# Altium integrated library Analog Devices RF IF Direct Digital Synthesis.IntLib: 76 symbols (part 3 of 9)
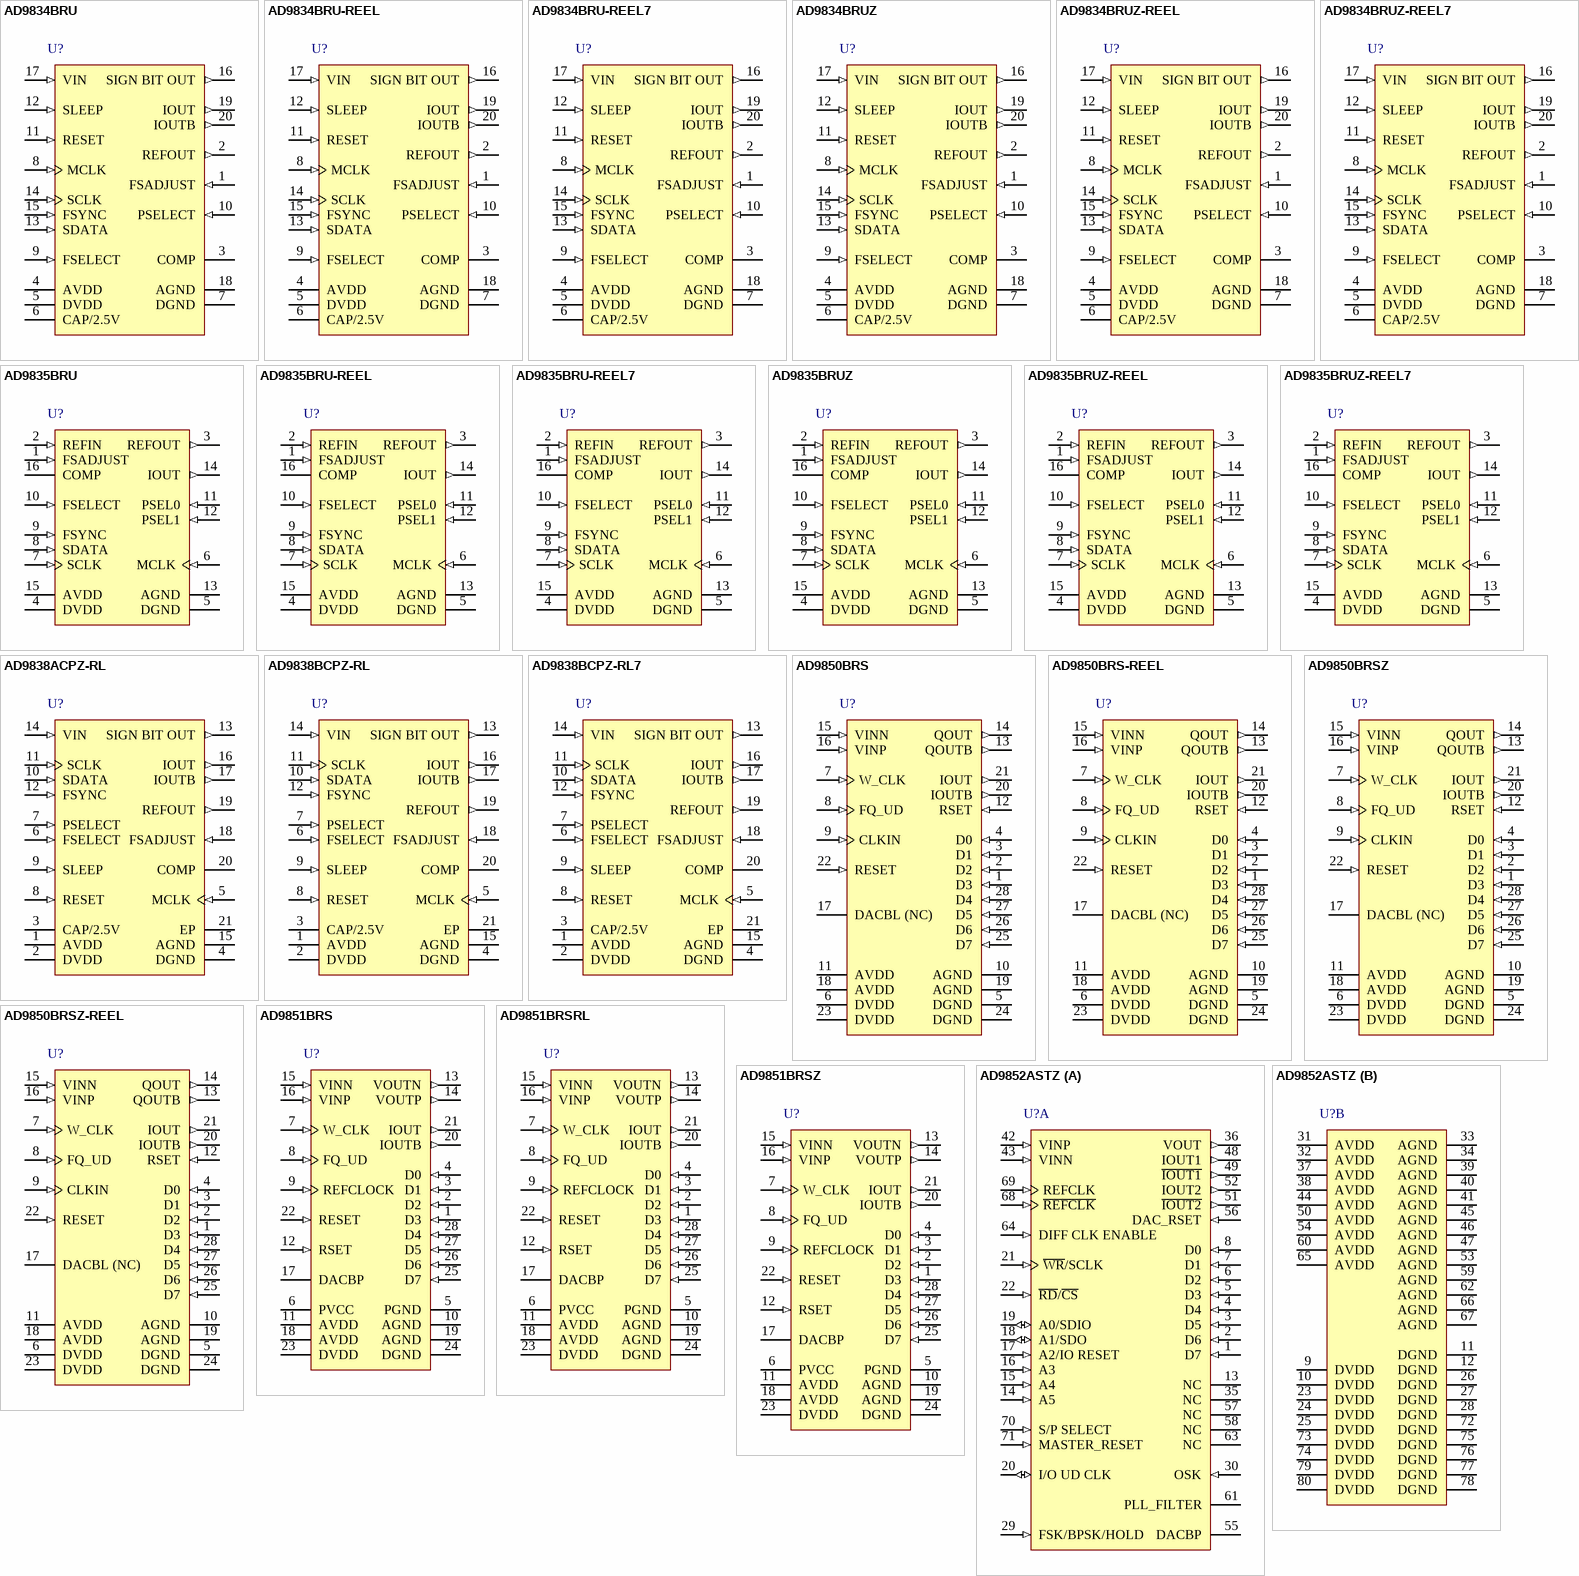
[diagram p7: symbols AD9834BRU to AD9852ASTZ]

## AD9834BRUZ-REEL
designator U?
20 mW Power, 2.3 V to 5.5 V, 75 MHz Complete DDS, 10-Bit, Serial, RU-20, 2500 Reel, Pb-Free; Master fclk: 75MHz; Resolution (Bits): 10bit; Tuning Word Width (bits): 28bit; REFCLK Multiplier: No; Compliance Range (V): 800mV; FS Iout (mA nom): 3mA; I Supply total (max): 8.7mA; DatasheetVersion: Rev. C; PackageVersion: 2000; PackageReference: RU-20; PackageDescription: 20-Lead Thin Shrink Small Outline Package [TSSOP]; I/O Interface: Serial; Code_JEDEC: MO-153AC; ComponentLink1Description: Manufacturer URL; ComponentLink1URL: www.analog.com; ComponentLink2Description: Datasheet; ComponentLink2URL: http://www.analog.com/static/imported-files/data_sheets/AD9834.pdf; ComponentLink3Description: Package Specification; ComponentLink3URL: http://www.analog.com/static/imported-files/packages/364515793657813558433715854054607941441RU20.pdf
footprint ADI-RU-20_N (TSOP, 20-Leads, Body 6.5x4.4mm, Pitch 0.65mm, IPC Medium Density)
footprint ADI-RU-20_L (TSOP, 20-Leads, Body 6.5x4.4mm, Pitch 0.65mm, IPC High Density)
footprint ADI-RU-20_M (TSOP, 20-Leads, Body 6.5x4.4mm, Pitch 0.65mm, IPC Low Density)
pins: 1 FSADJUST (in) "Full-Scale Adjust Control. A resistor (RSET) is connected between this pin and AGND. This determines the magnitude of the full-scale DAC current. [see datasheet]", 2 REFOUT (out) "Voltage Reference Output. The AD9834 has an internal 1.20 V reference that is made available at this pin.", 3 COMP "DAC Bias Pin. This pin is used for decoupling the DAC bias voltage.", 4 AVDD (power) "Positive Power Supply for the Analog Section. AVDD can have a value from 2.3 V to 5.5 V. A 0.1 uF decoupling capacitor should be connected between AVDD and AGND.", 5 DVDD (power) "Positive Power Supply for the Digital Section. DVDD can have a value from 2.3 V to 5.5 V. A 0.1 uF decoupling capacitor should be connected between DVDD and DGND.", 6 CAP/2.5V (power) "The digital circuitry operates from a 2.5 V power supply. This 2.5 V is generated from DVDD using an on-board regulator (when DVDD exceeds 2.7 V). [see datasheet]", 7 DGND (power) "Digital Ground.", 8 MCLK (in) "Digital Clock Input. DDS output frequencies are expressed as a binary fraction of the frequency of MCLK. The output frequency accuracy and phase noise are determined by this clock.", 9 FSELECT (in) "Frequency Select Input. FSELECT controls which frequency register, FREQ0 or FREQ1, is used in the phase accumulator. The frequency register to be used can be selected using Pin FSELECT or Bit FSEL. [see datasheet]", 10 PSELECT (in) "Phase Select Input. PSELECT controls which phase register, PHASE0 or PHASE1, is added to the phase accumulator output. The phase register to be used can be selected using Pin PSELECT or Bit PSEL. [see datasheet]", 11 RESET (in) "Active High Digital Input. RESET resets appropriate internal registers to zero; this corresponds to an analog output of midscale. RESET does not affect any of the addressable registers.", 12 SLEEP (in) "Active High Digital Input. When this pin is high, the DAC is powered down. This pin has the same function as Control Bit SLEEP12.", 13 SDATA (in) "Serial Data Input. The 16-bit serial data-word is applied to this input.", 14 SCLK (in) "Serial Clock Input. Data is clocked into the AD9834 on each falling SCLK edge.", 15 FSYNC (in) "Active Low Control Input. This is the frame synchronization signal for the input data. When FSYNC is taken low, the internal logic is informed that a new word is being loaded into the device.", 16 SIGN BIT OUT (out) "Logic Output. The comparator output is available on this pin or, alternatively, the MSB from the NCO can be output on this pin. Setting Bit OPBITEN in the control register to 1 enables this output pin. [see datasheet]", 17 VIN (in) "Input to Comparator. The comparator can be used to generate a square wave from the sinusoidal DAC output. The DAC output should be filtered appropriately before being applied to the comparator to improve jitter. [see datasheet]", 18 AGND (power) "Analog Ground.", 19 IOUT (out) "Current Output. This is a high impedance current source. A load resistor of nominally 200  ohm should be connected between IOUT and AGND. [see datasheet]", 20 IOUTB (out) "Current Output. This is a high impedance current source. A load resistor of nominally 200  ohm should be connected between IOUT and AGND. [see datasheet]"

## AD9834BRUZ-REEL7
designator U?
20 mW Power, 2.3 V to 5.5 V, 75 MHz Complete DDS, 10-Bit, Serial, RU-20, 1000 Reel, Pb-Free; Master fclk: 75MHz; Resolution (Bits): 10bit; Tuning Word Width (bits): 28bit; REFCLK Multiplier: No; Compliance Range (V): 800mV; FS Iout (mA nom): 3mA; I Supply total (max): 8.7mA; DatasheetVersion: Rev. C; PackageVersion: 2000; PackageReference: RU-20; PackageDescription: 20-Lead Thin Shrink Small Outline Package [TSSOP]; I/O Interface: Serial; Code_JEDEC: MO-153AC; ComponentLink1Description: Manufacturer URL; ComponentLink1URL: www.analog.com; ComponentLink2Description: Datasheet; ComponentLink2URL: http://www.analog.com/static/imported-files/data_sheets/AD9834.pdf; ComponentLink3Description: Package Specification; ComponentLink3URL: http://www.analog.com/static/imported-files/packages/364515793657813558433715854054607941441RU20.pdf
footprint ADI-RU-20_N (TSOP, 20-Leads, Body 6.5x4.4mm, Pitch 0.65mm, IPC Medium Density)
footprint ADI-RU-20_L (TSOP, 20-Leads, Body 6.5x4.4mm, Pitch 0.65mm, IPC High Density)
footprint ADI-RU-20_M (TSOP, 20-Leads, Body 6.5x4.4mm, Pitch 0.65mm, IPC Low Density)
pins: 1 FSADJUST (in) "Full-Scale Adjust Control. A resistor (RSET) is connected between this pin and AGND. This determines the magnitude of the full-scale DAC current. [see datasheet]", 2 REFOUT (out) "Voltage Reference Output. The AD9834 has an internal 1.20 V reference that is made available at this pin.", 3 COMP "DAC Bias Pin. This pin is used for decoupling the DAC bias voltage.", 4 AVDD (power) "Positive Power Supply for the Analog Section. AVDD can have a value from 2.3 V to 5.5 V. A 0.1 uF decoupling capacitor should be connected between AVDD and AGND.", 5 DVDD (power) "Positive Power Supply for the Digital Section. DVDD can have a value from 2.3 V to 5.5 V. A 0.1 uF decoupling capacitor should be connected between DVDD and DGND.", 6 CAP/2.5V (power) "The digital circuitry operates from a 2.5 V power supply. This 2.5 V is generated from DVDD using an on-board regulator (when DVDD exceeds 2.7 V). [see datasheet]", 7 DGND (power) "Digital Ground.", 8 MCLK (in) "Digital Clock Input. DDS output frequencies are expressed as a binary fraction of the frequency of MCLK. The output frequency accuracy and phase noise are determined by this clock.", 9 FSELECT (in) "Frequency Select Input. FSELECT controls which frequency register, FREQ0 or FREQ1, is used in the phase accumulator. The frequency register to be used can be selected using Pin FSELECT or Bit FSEL. [see datasheet]", 10 PSELECT (in) "Phase Select Input. PSELECT controls which phase register, PHASE0 or PHASE1, is added to the phase accumulator output. The phase register to be used can be selected using Pin PSELECT or Bit PSEL. [see datasheet]", 11 RESET (in) "Active High Digital Input. RESET resets appropriate internal registers to zero; this corresponds to an analog output of midscale. RESET does not affect any of the addressable registers.", 12 SLEEP (in) "Active High Digital Input. When this pin is high, the DAC is powered down. This pin has the same function as Control Bit SLEEP12.", 13 SDATA (in) "Serial Data Input. The 16-bit serial data-word is applied to this input.", 14 SCLK (in) "Serial Clock Input. Data is clocked into the AD9834 on each falling SCLK edge.", 15 FSYNC (in) "Active Low Control Input. This is the frame synchronization signal for the input data. When FSYNC is taken low, the internal logic is informed that a new word is being loaded into the device.", 16 SIGN BIT OUT (out) "Logic Output. The comparator output is available on this pin or, alternatively, the MSB from the NCO can be output on this pin. Setting Bit OPBITEN in the control register to 1 enables this output pin. [see datasheet]", 17 VIN (in) "Input to Comparator. The comparator can be used to generate a square wave from the sinusoidal DAC output. The DAC output should be filtered appropriately before being applied to the comparator to improve jitter. [see datasheet]", 18 AGND (power) "Analog Ground.", 19 IOUT (out) "Current Output. This is a high impedance current source. A load resistor of nominally 200  ohm should be connected between IOUT and AGND. [see datasheet]", 20 IOUTB (out) "Current Output. This is a high impedance current source. A load resistor of nominally 200  ohm should be connected between IOUT and AGND. [see datasheet]"

## AD9835BRU
designator U?
50 MHz Direct Digital Synthesizer, Waveform Generator, 10-Bit, Serial, RU-16, 96 Tube; Master fclk: 50MHz; Resolution (Bits): 10bit; Tuning Word Width (bits): 32bit; REFCLK Multiplier: No; Compliance Range (V): 1.35V; FS Iout (mA nom): 4mA; I Supply total (max): 40mA; DatasheetVersion: Rev. A; PackageVersion: Nov-2002; PackageReference: RU-16; PackageDescription: 16-Lead Thin Shrink Small Outline Package [TSSOP]; I/O Interface: Serial; Code_JEDEC: MO-153AB; ComponentLink1Description: Manufacturer URL; ComponentLink1URL: www.analog.com; ComponentLink2Description: Datasheet; ComponentLink2URL: http://www.analog.com/static/imported-files/data_sheets/AD9835.pdf; ComponentLink3Description: Package Specification; ComponentLink3URL: http://www.analog.com/static/imported-files/packages/36244347913743854010197452789RU16.pdf
footprint ADI-RU-16_N (TSOP, 16-Leads, Body 5x4.4mm, Pitch 0.65mm, IPC Medium Density)
footprint ADI-RU-16_L (TSOP, 16-Leads, Body 5x4.4mm, Pitch 0.65mm, IPC High Density)
footprint ADI-RU-16_M (TSOP, 16-Leads, Body 5x4.4mm, Pitch 0.65mm, IPC Low Density)
pins: 1 FSADJUST (in) "Full-Scale Adjust Control. A resistor (RSET) is connected between this pin and AGND. This determines the  magnitude of the full-scale DAC current. [see datasheet]", 2 REFIN (in) "Voltage Reference Input. The AD9835 can be used with either the on-board reference, which is available from   the REFOUT pin, or an external reference. [see datasheet]", 3 REFOUT (out) "Voltage Reference Output. The AD9835 has an on-board reference of value 1.21 V nominal. The reference is  available on the REFOUT pin. [see datasheet]", 4 DVDD (power) "Positive Power Supply for the Digital Section. A 0.1 uF decoupling capacitor should be connected between   DVDD and DGND. DVDD can have a value of 5 V +/- 5%.", 5 DGND (power) "Digital Ground", 6 MCLK (in) "Digital Clock Input. DDS output frequencies are expressed as a binary fraction of the frequency of MCLK. This  clock determines the output frequency accuracy and phase noise", 7 SCLK (in) "Serial Clock, Logic Input. Data is clocked into the AD9832 on each falling SCLK edge.", 8 SDATA (in) "Serial Data In, Logic Input. The 16-bit serial data-word is applied to this input.", 9 FSYNC (in) "Data Synchronization Signal, Logic Input. When this input goes low, the internal logic is informed that  a new word is being loaded into the devic", 10 FSELECT (in) "Frequency Select Input. FSELECT controls which frequency register, FREQ0 or FREQ1, is used in the phase  accumulator. The frequency register to be used can be selected using the FSELECT pin or the FSELECT bit. [see datasheet]", 11 PSEL0 (in) "Phase Select Input. The AD9835 has four phase registers. These registers can be used to alter the value being  input to the SIN ROM. [see datasheet]", 12 PSEL1 (in) "Phase Select Input. The AD9835 has four phase registers. These registers can be used to alter the value being  input to the SIN ROM. [see datasheet]", 13 AGND (power) "Analog Ground", 14 IOUT (out) "Current Output. This is a high impedance current source. A load resistor should be connected between IOUT and AGN", 15 AVDD (power) "Positive Power Supply for the Analog Section. A 0.1 uF decoupling capacitor should be connected between  AVDD and AGND. AVDD can have a value of 5 V +/- 5% .", 16 COMP "Compensation Pin. This is a compensation pin for the internal reference amplifier. A 10 nF decoupling ceramic capacitor should be connected between COMP and AVDD."

## AD9835BRU-REEL
designator U?
50 MHz Direct Digital Synthesizer, Waveform Generator, 10-Bit, Serial, RU-16, 2500 Reel; Master fclk: 50MHz; Resolution (Bits): 10bit; Tuning Word Width (bits): 32bit; REFCLK Multiplier: No; Compliance Range (V): 1.35V; FS Iout (mA nom): 4mA; I Supply total (max): 40mA; DatasheetVersion: Rev. A; PackageVersion: Nov-2002; PackageReference: RU-16; PackageDescription: 16-Lead Thin Shrink Small Outline Package [TSSOP]; I/O Interface: Serial; Code_JEDEC: MO-153AB; ComponentLink1Description: Manufacturer URL; ComponentLink1URL: www.analog.com; ComponentLink2Description: Datasheet; ComponentLink2URL: http://www.analog.com/static/imported-files/data_sheets/AD9835.pdf; ComponentLink3Description: Package Specification; ComponentLink3URL: http://www.analog.com/static/imported-files/packages/36244347913743854010197452789RU16.pdf
footprint ADI-RU-16_N (TSOP, 16-Leads, Body 5x4.4mm, Pitch 0.65mm, IPC Medium Density)
footprint ADI-RU-16_L (TSOP, 16-Leads, Body 5x4.4mm, Pitch 0.65mm, IPC High Density)
footprint ADI-RU-16_M (TSOP, 16-Leads, Body 5x4.4mm, Pitch 0.65mm, IPC Low Density)
pins: 1 FSADJUST (in) "Full-Scale Adjust Control. A resistor (RSET) is connected between this pin and AGND. This determines the  magnitude of the full-scale DAC current. [see datasheet]", 2 REFIN (in) "Voltage Reference Input. The AD9835 can be used with either the on-board reference, which is available from   the REFOUT pin, or an external reference. [see datasheet]", 3 REFOUT (out) "Voltage Reference Output. The AD9835 has an on-board reference of value 1.21 V nominal. The reference is  available on the REFOUT pin. [see datasheet]", 4 DVDD (power) "Positive Power Supply for the Digital Section. A 0.1 uF decoupling capacitor should be connected between   DVDD and DGND. DVDD can have a value of 5 V +/- 5%.", 5 DGND (power) "Digital Ground", 6 MCLK (in) "Digital Clock Input. DDS output frequencies are expressed as a binary fraction of the frequency of MCLK. This  clock determines the output frequency accuracy and phase noise", 7 SCLK (in) "Serial Clock, Logic Input. Data is clocked into the AD9832 on each falling SCLK edge.", 8 SDATA (in) "Serial Data In, Logic Input. The 16-bit serial data-word is applied to this input.", 9 FSYNC (in) "Data Synchronization Signal, Logic Input. When this input goes low, the internal logic is informed that  a new word is being loaded into the devic", 10 FSELECT (in) "Frequency Select Input. FSELECT controls which frequency register, FREQ0 or FREQ1, is used in the phase  accumulator. The frequency register to be used can be selected using the FSELECT pin or the FSELECT bit. [see datasheet]", 11 PSEL0 (in) "Phase Select Input. The AD9835 has four phase registers. These registers can be used to alter the value being  input to the SIN ROM. [see datasheet]", 12 PSEL1 (in) "Phase Select Input. The AD9835 has four phase registers. These registers can be used to alter the value being  input to the SIN ROM. [see datasheet]", 13 AGND (power) "Analog Ground", 14 IOUT (out) "Current Output. This is a high impedance current source. A load resistor should be connected between IOUT and AGN", 15 AVDD (power) "Positive Power Supply for the Analog Section. A 0.1 uF decoupling capacitor should be connected between  AVDD and AGND. AVDD can have a value of 5 V +/- 5% .", 16 COMP "Compensation Pin. This is a compensation pin for the internal reference amplifier. A 10 nF decoupling ceramic capacitor should be connected between COMP and AVDD."

## AD9835BRU-REEL7
designator U?
50 MHz Direct Digital Synthesizer, Waveform Generator, 10-Bit, Serial, RU-16, 1000 Reel; Master fclk: 50MHz; Resolution (Bits): 10bit; Tuning Word Width (bits): 32bit; REFCLK Multiplier: No; Compliance Range (V): 1.35V; FS Iout (mA nom): 4mA; I Supply total (max): 40mA; DatasheetVersion: Rev. A; PackageVersion: Nov-2002; PackageReference: RU-16; PackageDescription: 16-Lead Thin Shrink Small Outline Package [TSSOP]; I/O Interface: Serial; Code_JEDEC: MO-153AB; ComponentLink1Description: Manufacturer URL; ComponentLink1URL: www.analog.com; ComponentLink2Description: Datasheet; ComponentLink2URL: http://www.analog.com/static/imported-files/data_sheets/AD9835.pdf; ComponentLink3Description: Package Specification; ComponentLink3URL: http://www.analog.com/static/imported-files/packages/36244347913743854010197452789RU16.pdf
footprint ADI-RU-16_N (TSOP, 16-Leads, Body 5x4.4mm, Pitch 0.65mm, IPC Medium Density)
footprint ADI-RU-16_L (TSOP, 16-Leads, Body 5x4.4mm, Pitch 0.65mm, IPC High Density)
footprint ADI-RU-16_M (TSOP, 16-Leads, Body 5x4.4mm, Pitch 0.65mm, IPC Low Density)
pins: 1 FSADJUST (in) "Full-Scale Adjust Control. A resistor (RSET) is connected between this pin and AGND. This determines the  magnitude of the full-scale DAC current. [see datasheet]", 2 REFIN (in) "Voltage Reference Input. The AD9835 can be used with either the on-board reference, which is available from   the REFOUT pin, or an external reference. [see datasheet]", 3 REFOUT (out) "Voltage Reference Output. The AD9835 has an on-board reference of value 1.21 V nominal. The reference is  available on the REFOUT pin. [see datasheet]", 4 DVDD (power) "Positive Power Supply for the Digital Section. A 0.1 uF decoupling capacitor should be connected between   DVDD and DGND. DVDD can have a value of 5 V +/- 5%.", 5 DGND (power) "Digital Ground", 6 MCLK (in) "Digital Clock Input. DDS output frequencies are expressed as a binary fraction of the frequency of MCLK. This  clock determines the output frequency accuracy and phase noise", 7 SCLK (in) "Serial Clock, Logic Input. Data is clocked into the AD9832 on each falling SCLK edge.", 8 SDATA (in) "Serial Data In, Logic Input. The 16-bit serial data-word is applied to this input.", 9 FSYNC (in) "Data Synchronization Signal, Logic Input. When this input goes low, the internal logic is informed that  a new word is being loaded into the devic", 10 FSELECT (in) "Frequency Select Input. FSELECT controls which frequency register, FREQ0 or FREQ1, is used in the phase  accumulator. The frequency register to be used can be selected using the FSELECT pin or the FSELECT bit. [see datasheet]", 11 PSEL0 (in) "Phase Select Input. The AD9835 has four phase registers. These registers can be used to alter the value being  input to the SIN ROM. [see datasheet]", 12 PSEL1 (in) "Phase Select Input. The AD9835 has four phase registers. These registers can be used to alter the value being  input to the SIN ROM. [see datasheet]", 13 AGND (power) "Analog Ground", 14 IOUT (out) "Current Output. This is a high impedance current source. A load resistor should be connected between IOUT and AGN", 15 AVDD (power) "Positive Power Supply for the Analog Section. A 0.1 uF decoupling capacitor should be connected between  AVDD and AGND. AVDD can have a value of 5 V +/- 5% .", 16 COMP "Compensation Pin. This is a compensation pin for the internal reference amplifier. A 10 nF decoupling ceramic capacitor should be connected between COMP and AVDD."

## AD9835BRUZ
designator U?
50 MHz Direct Digital Synthesizer, Waveform Generator, 10-Bit, Serial, RU-16, 96 Tube,Pb-Free; Master fclk: 50MHz; Resolution (Bits): 10bit; Tuning Word Width (bits): 32bit; REFCLK Multiplier: No; Compliance Range (V): 1.35V; FS Iout (mA nom): 4mA; I Supply total (max): 40mA; DatasheetVersion: Rev. A; PackageVersion: Nov-2002; PackageReference: RU-16; PackageDescription: 16-Lead Thin Shrink Small Outline Package [TSSOP]; I/O Interface: Serial; Code_JEDEC: MO-153AB; ComponentLink1Description: Manufacturer URL; ComponentLink1URL: www.analog.com; ComponentLink2Description: Datasheet; ComponentLink2URL: http://www.analog.com/static/imported-files/data_sheets/AD9835.pdf; ComponentLink3Description: Package Specification; ComponentLink3URL: http://www.analog.com/static/imported-files/packages/36244347913743854010197452789RU16.pdf
footprint ADI-RU-16_N (TSOP, 16-Leads, Body 5x4.4mm, Pitch 0.65mm, IPC Medium Density)
footprint ADI-RU-16_L (TSOP, 16-Leads, Body 5x4.4mm, Pitch 0.65mm, IPC High Density)
footprint ADI-RU-16_M (TSOP, 16-Leads, Body 5x4.4mm, Pitch 0.65mm, IPC Low Density)
pins: 1 FSADJUST (in) "Full-Scale Adjust Control. A resistor (RSET) is connected between this pin and AGND. This determines the  magnitude of the full-scale DAC current. [see datasheet]", 2 REFIN (in) "Voltage Reference Input. The AD9835 can be used with either the on-board reference, which is available from   the REFOUT pin, or an external reference. [see datasheet]", 3 REFOUT (out) "Voltage Reference Output. The AD9835 has an on-board reference of value 1.21 V nominal. The reference is  available on the REFOUT pin. [see datasheet]", 4 DVDD (power) "Positive Power Supply for the Digital Section. A 0.1 uF decoupling capacitor should be connected between   DVDD and DGND. DVDD can have a value of 5 V +/- 5%.", 5 DGND (power) "Digital Ground", 6 MCLK (in) "Digital Clock Input. DDS output frequencies are expressed as a binary fraction of the frequency of MCLK. This  clock determines the output frequency accuracy and phase noise", 7 SCLK (in) "Serial Clock, Logic Input. Data is clocked into the AD9832 on each falling SCLK edge.", 8 SDATA (in) "Serial Data In, Logic Input. The 16-bit serial data-word is applied to this input.", 9 FSYNC (in) "Data Synchronization Signal, Logic Input. When this input goes low, the internal logic is informed that  a new word is being loaded into the devic", 10 FSELECT (in) "Frequency Select Input. FSELECT controls which frequency register, FREQ0 or FREQ1, is used in the phase  accumulator. The frequency register to be used can be selected using the FSELECT pin or the FSELECT bit. [see datasheet]", 11 PSEL0 (in) "Phase Select Input. The AD9835 has four phase registers. These registers can be used to alter the value being  input to the SIN ROM. [see datasheet]", 12 PSEL1 (in) "Phase Select Input. The AD9835 has four phase registers. These registers can be used to alter the value being  input to the SIN ROM. [see datasheet]", 13 AGND (power) "Analog Ground", 14 IOUT (out) "Current Output. This is a high impedance current source. A load resistor should be connected between IOUT and AGN", 15 AVDD (power) "Positive Power Supply for the Analog Section. A 0.1 uF decoupling capacitor should be connected between  AVDD and AGND. AVDD can have a value of 5 V +/- 5% .", 16 COMP "Compensation Pin. This is a compensation pin for the internal reference amplifier. A 10 nF decoupling ceramic capacitor should be connected between COMP and AVDD."

## AD9835BRUZ-REEL
designator U?
50 MHz Direct Digital Synthesizer, Waveform Generator, 10-Bit, Serial, RU-16, 2500 Reel,Pb-Free; Master fclk: 50MHz; Resolution (Bits): 10bit; Tuning Word Width (bits): 32bit; REFCLK Multiplier: No; Compliance Range (V): 1.35V; FS Iout (mA nom): 4mA; I Supply total (max): 40mA; DatasheetVersion: Rev. A; PackageVersion: Nov-2002; PackageReference: RU-16; PackageDescription: 16-Lead Thin Shrink Small Outline Package [TSSOP]; I/O Interface: Serial; Code_JEDEC: MO-153AB; ComponentLink1Description: Manufacturer URL; ComponentLink1URL: www.analog.com; ComponentLink2Description: Datasheet; ComponentLink2URL: http://www.analog.com/static/imported-files/data_sheets/AD9835.pdf; ComponentLink3Description: Package Specification; ComponentLink3URL: http://www.analog.com/static/imported-files/packages/36244347913743854010197452789RU16.pdf
footprint ADI-RU-16_N (TSOP, 16-Leads, Body 5x4.4mm, Pitch 0.65mm, IPC Medium Density)
footprint ADI-RU-16_L (TSOP, 16-Leads, Body 5x4.4mm, Pitch 0.65mm, IPC High Density)
footprint ADI-RU-16_M (TSOP, 16-Leads, Body 5x4.4mm, Pitch 0.65mm, IPC Low Density)
pins: 1 FSADJUST (in) "Full-Scale Adjust Control. A resistor (RSET) is connected between this pin and AGND. This determines the  magnitude of the full-scale DAC current. [see datasheet]", 2 REFIN (in) "Voltage Reference Input. The AD9835 can be used with either the on-board reference, which is available from   the REFOUT pin, or an external reference. [see datasheet]", 3 REFOUT (out) "Voltage Reference Output. The AD9835 has an on-board reference of value 1.21 V nominal. The reference is  available on the REFOUT pin. [see datasheet]", 4 DVDD (power) "Positive Power Supply for the Digital Section. A 0.1 uF decoupling capacitor should be connected between   DVDD and DGND. DVDD can have a value of 5 V +/- 5%.", 5 DGND (power) "Digital Ground", 6 MCLK (in) "Digital Clock Input. DDS output frequencies are expressed as a binary fraction of the frequency of MCLK. This  clock determines the output frequency accuracy and phase noise", 7 SCLK (in) "Serial Clock, Logic Input. Data is clocked into the AD9832 on each falling SCLK edge.", 8 SDATA (in) "Serial Data In, Logic Input. The 16-bit serial data-word is applied to this input.", 9 FSYNC (in) "Data Synchronization Signal, Logic Input. When this input goes low, the internal logic is informed that  a new word is being loaded into the devic", 10 FSELECT (in) "Frequency Select Input. FSELECT controls which frequency register, FREQ0 or FREQ1, is used in the phase  accumulator. The frequency register to be used can be selected using the FSELECT pin or the FSELECT bit. [see datasheet]", 11 PSEL0 (in) "Phase Select Input. The AD9835 has four phase registers. These registers can be used to alter the value being  input to the SIN ROM. [see datasheet]", 12 PSEL1 (in) "Phase Select Input. The AD9835 has four phase registers. These registers can be used to alter the value being  input to the SIN ROM. [see datasheet]", 13 AGND (power) "Analog Ground", 14 IOUT (out) "Current Output. This is a high impedance current source. A load resistor should be connected between IOUT and AGN", 15 AVDD (power) "Positive Power Supply for the Analog Section. A 0.1 uF decoupling capacitor should be connected between  AVDD and AGND. AVDD can have a value of 5 V +/- 5% .", 16 COMP "Compensation Pin. This is a compensation pin for the internal reference amplifier. A 10 nF decoupling ceramic capacitor should be connected between COMP and AVDD."

## AD9835BRUZ-REEL7
designator U?
50 MHz Direct Digital Synthesizer, Waveform Generator, 10-Bit, Serial, RU-16, 1000 Reel,Pb-Free; Master fclk: 50MHz; Resolution (Bits): 10bit; Tuning Word Width (bits): 32bit; REFCLK Multiplier: No; Compliance Range (V): 1.35V; FS Iout (mA nom): 4mA; I Supply total (max): 40mA; DatasheetVersion: Rev. A; PackageVersion: Nov-2002; PackageReference: RU-16; PackageDescription: 16-Lead Thin Shrink Small Outline Package [TSSOP]; I/O Interface: Serial; Code_JEDEC: MO-153AB; ComponentLink1Description: Manufacturer URL; ComponentLink1URL: www.analog.com; ComponentLink2Description: Datasheet; ComponentLink2URL: http://www.analog.com/static/imported-files/data_sheets/AD9835.pdf; ComponentLink3Description: Package Specification; ComponentLink3URL: http://www.analog.com/static/imported-files/packages/36244347913743854010197452789RU16.pdf
footprint ADI-RU-16_N (TSOP, 16-Leads, Body 5x4.4mm, Pitch 0.65mm, IPC Medium Density)
footprint ADI-RU-16_L (TSOP, 16-Leads, Body 5x4.4mm, Pitch 0.65mm, IPC High Density)
footprint ADI-RU-16_M (TSOP, 16-Leads, Body 5x4.4mm, Pitch 0.65mm, IPC Low Density)
pins: 1 FSADJUST (in) "Full-Scale Adjust Control. A resistor (RSET) is connected between this pin and AGND. This determines the  magnitude of the full-scale DAC current. [see datasheet]", 2 REFIN (in) "Voltage Reference Input. The AD9835 can be used with either the on-board reference, which is available from   the REFOUT pin, or an external reference. [see datasheet]", 3 REFOUT (out) "Voltage Reference Output. The AD9835 has an on-board reference of value 1.21 V nominal. The reference is  available on the REFOUT pin. [see datasheet]", 4 DVDD (power) "Positive Power Supply for the Digital Section. A 0.1 uF decoupling capacitor should be connected between   DVDD and DGND. DVDD can have a value of 5 V +/- 5%.", 5 DGND (power) "Digital Ground", 6 MCLK (in) "Digital Clock Input. DDS output frequencies are expressed as a binary fraction of the frequency of MCLK. This  clock determines the output frequency accuracy and phase noise", 7 SCLK (in) "Serial Clock, Logic Input. Data is clocked into the AD9832 on each falling SCLK edge.", 8 SDATA (in) "Serial Data In, Logic Input. The 16-bit serial data-word is applied to this input.", 9 FSYNC (in) "Data Synchronization Signal, Logic Input. When this input goes low, the internal logic is informed that  a new word is being loaded into the devic", 10 FSELECT (in) "Frequency Select Input. FSELECT controls which frequency register, FREQ0 or FREQ1, is used in the phase  accumulator. The frequency register to be used can be selected using the FSELECT pin or the FSELECT bit. [see datasheet]", 11 PSEL0 (in) "Phase Select Input. The AD9835 has four phase registers. These registers can be used to alter the value being  input to the SIN ROM. [see datasheet]", 12 PSEL1 (in) "Phase Select Input. The AD9835 has four phase registers. These registers can be used to alter the value being  input to the SIN ROM. [see datasheet]", 13 AGND (power) "Analog Ground", 14 IOUT (out) "Current Output. This is a high impedance current source. A load resistor should be connected between IOUT and AGN", 15 AVDD (power) "Positive Power Supply for the Analog Section. A 0.1 uF decoupling capacitor should be connected between  AVDD and AGND. AVDD can have a value of 5 V +/- 5% .", 16 COMP "Compensation Pin. This is a compensation pin for the internal reference amplifier. A 10 nF decoupling ceramic capacitor should be connected between COMP and AVDD."

## AD9838ACPZ-RL
designator U?
11 mW Power, 2.3 V to 5.5 V,Complete DDS, CP-20-10, 5000 Reel, Pb-Free; Master fclk: 16MHz; Resolution (Bits): 10bit; Tuning Word Width (bits): 28bit; I/O Interface: Serial; REFCLK Multiplier: Yes; Compliance Range (V): 800mV; FS Iout (mA nom): 3mA; DatasheetVersion: Rev. A; PackageVersion: 061609-B; PackageReference: CP-20-10; PackageDescription: 20-Lead Lead Frame Chip Scale Package [LFCSP_WQ]; Code_JEDEC: MO-220-WGGD; ComponentLink1Description: Manufacturer URL; ComponentLink1URL: www.analog.com; ComponentLink2Description: Datasheet; ComponentLink2URL: http://www.analog.com/static/imported-files/data_sheets/AD9838.pdf; ComponentLink3Description: Package Specification; ComponentLink3URL: http://www.analog.com/static/imported-files/packages/PKG_PDF/LFCSP(CP)/CP_20_10.pdf
footprint ADI-CP-20-10_N (QFN, 20-Leads, Body 4x4mm, Pitch 0.5mm, Thermal Pad 2.6x2.6mm, IPC Medium Density)
footprint ADI-CP-20-10_L (QFN, 20-Leads, Body 4x4mm, Pitch 0.5mm, Thermal Pad 2.6x2.6mm, IPC High Density)
footprint ADI-CP-20-10_M (QFN, 20-Leads, Body 4x4mm, Pitch 0.5mm, Thermal Pad 2.6x2.6mm, IPC Low Density)
pins: 1 AVDD (power) "Positive Power Supply for the Analog Section. AVDD can have a value from 2.3 V to 5.5 V. A 0.1 uF decoupling capacitor should be connected between AVDD and AGND.", 2 DVDD (power) "Positive Power Supply for the Digital Section. DVDD can have a value from 2.3 V to 5.5 V. A 0.1 uF decoupling capacitor should be connected between DVDD and DGND.", 3 CAP/2.5V (power) "The digital circuitry operates from a 2.5 V power supply. This 2.5 V is generated from DVDD using an on-board regulator when DVDD exceeds 2.7 V. [see datasheet]", 4 DGND (power) "Digital Ground.", 5 MCLK (in) "Digital Clock Input. DDS output frequencies are expressed as a binary fraction of the frequency of MCLK. The output frequency accuracy and phase noise are determined by this clock.", 6 FSELECT (in) "Frequency Select Input. FSELECT controls which frequency register, FREQ0 or FREQ1, is used in the phase accumulator. The frequency register to be used can be selected using the FSELECT pin or the FSEL bit. [see datasheet]", 7 PSELECT (in) "Phase Select Input. PSELECT controls which phase register, PHASE0 or PHASE1, is added to the phase accumulator output. The phase register to be used can be selected using the PSELECT pin or the PSEL bit. [see datasheet]", 8 RESET (in) "Active High Digital Input. This pin resets the appropriate internal registers to 0 (this corresponds to an analog output of midscale). RESET does not affect any of the addressable registers.", 9 SLEEP (in) "Active High Digital Input. When this pin is high, the DAC is powered down. This pin has the same function as the SLEEP12 control bit.", 10 SDATA (in) "Serial Data Input. The 16-bit serial data-word is applied to this input.", 11 SCLK (in) "Serial Clock Input. Data is clocked into the AD9838 on each falling edge of SCLK.", 12 FSYNC (in) "Active Low Control Input.", 13 SIGN BIT OUT (out) "Logic Output. The comparator output is available on this pin or, alternatively, the MSB from the NCO can be output on this pin. Setting the OPBITEN bit in the control register to 1 enables this output pin. [see datasheet]", 14 VIN (in) "Input to Comparator. The comparator can be used to generate a square ave from the sinusoidal DAC output. The DAC output should be filtered ropriately before it is applied to the comparator to reduce jitter. [see datasheet]", 15 AGND (power) "Analog Ground.", 16 IOUT (out) "Current Output. This is a high impedance current source. A load resistor of nominally 200  ohm should be connected between IOUT and AGND. [see datasheet]", 17 IOUTB (out) "Current Output. This is a high impedance current source. A load resistor of nominally 200  ohm should be connected between IOUT and AGND. [see datasheet]", 18 FSADJUST (in) "Full-Scale Adjust Control. A resistor (RSET) is connected between this pin and AGND to determine the magnitude of the full-scale DAC current.", 19 REFOUT (out) "Voltage Reference Output. The AD9838 has an internal 1.20 V reference that is available at this pin.", 20 COMP "DAC Bias Pin. This pin is used for decoupling the DAC bias voltage.", 21 EP (power) "Exposed Pad. Connect the exposed pad to ground."

## AD9838BCPZ-RL
designator U?
11 mW Power, 2.3 V to 5.5 V,Complete DDS, CP-20-10, 5000 Reel, Pb-Free; Master fclk: 16MHz; Resolution (Bits): 10bit; Tuning Word Width (bits): 28bit; I/O Interface: Serial; REFCLK Multiplier: Yes; Compliance Range (V): 800mV; FS Iout (mA nom): 3mA; DatasheetVersion: Rev. A; PackageVersion: 061609-B; PackageReference: CP-20-10; PackageDescription: 20-Lead Lead Frame Chip Scale Package [LFCSP_WQ]; Code_JEDEC: MO-220-WGGD; ComponentLink1Description: Manufacturer URL; ComponentLink1URL: www.analog.com; ComponentLink2Description: Datasheet; ComponentLink2URL: http://www.analog.com/static/imported-files/data_sheets/AD9838.pdf; ComponentLink3Description: Package Specification; ComponentLink3URL: http://www.analog.com/static/imported-files/packages/PKG_PDF/LFCSP(CP)/CP_20_10.pdf
footprint ADI-CP-20-10_N (QFN, 20-Leads, Body 4x4mm, Pitch 0.5mm, Thermal Pad 2.6x2.6mm, IPC Medium Density)
footprint ADI-CP-20-10_L (QFN, 20-Leads, Body 4x4mm, Pitch 0.5mm, Thermal Pad 2.6x2.6mm, IPC High Density)
footprint ADI-CP-20-10_M (QFN, 20-Leads, Body 4x4mm, Pitch 0.5mm, Thermal Pad 2.6x2.6mm, IPC Low Density)
pins: 1 AVDD (power) "Positive Power Supply for the Analog Section. AVDD can have a value from 2.3 V to 5.5 V. A 0.1 uF decoupling capacitor should be connected between AVDD and AGND.", 2 DVDD (power) "Positive Power Supply for the Digital Section. DVDD can have a value from 2.3 V to 5.5 V. A 0.1 uF decoupling capacitor should be connected between DVDD and DGND.", 3 CAP/2.5V (power) "The digital circuitry operates from a 2.5 V power supply. This 2.5 V is generated from DVDD using an on-board regulator when DVDD exceeds 2.7 V. [see datasheet]", 4 DGND (power) "Digital Ground.", 5 MCLK (in) "Digital Clock Input. DDS output frequencies are expressed as a binary fraction of the frequency of MCLK. The output frequency accuracy and phase noise are determined by this clock.", 6 FSELECT (in) "Frequency Select Input. FSELECT controls which frequency register, FREQ0 or FREQ1, is used in the phase accumulator. The frequency register to be used can be selected using the FSELECT pin or the FSEL bit. [see datasheet]", 7 PSELECT (in) "Phase Select Input. PSELECT controls which phase register, PHASE0 or PHASE1, is added to the phase accumulator output. The phase register to be used can be selected using the PSELECT pin or the PSEL bit. [see datasheet]", 8 RESET (in) "Active High Digital Input. This pin resets the appropriate internal registers to 0 (this corresponds to an analog output of midscale). RESET does not affect any of the addressable registers.", 9 SLEEP (in) "Active High Digital Input. When this pin is high, the DAC is powered down. This pin has the same function as the SLEEP12 control bit.", 10 SDATA (in) "Serial Data Input. The 16-bit serial data-word is applied to this input.", 11 SCLK (in) "Serial Clock Input. Data is clocked into the AD9838 on each falling edge of SCLK.", 12 FSYNC (in) "Active Low Control Input.", 13 SIGN BIT OUT (out) "Logic Output. The comparator output is available on this pin or, alternatively, the MSB from the NCO can be output on this pin. Setting the OPBITEN bit in the control register to 1 enables this output pin. [see datasheet]", 14 VIN (in) "Input to Comparator. The comparator can be used to generate a square ave from the sinusoidal DAC output. The DAC output should be filtered ropriately before it is applied to the comparator to reduce jitter. [see datasheet]", 15 AGND (power) "Analog Ground.", 16 IOUT (out) "Current Output. This is a high impedance current source. A load resistor of nominally 200  ohm should be connected between IOUT and AGND. [see datasheet]", 17 IOUTB (out) "Current Output. This is a high impedance current source. A load resistor of nominally 200  ohm should be connected between IOUT and AGND. [see datasheet]", 18 FSADJUST (in) "Full-Scale Adjust Control. A resistor (RSET) is connected between this pin and AGND to determine the magnitude of the full-scale DAC current.", 19 REFOUT (out) "Voltage Reference Output. The AD9838 has an internal 1.20 V reference that is available at this pin.", 20 COMP "DAC Bias Pin. This pin is used for decoupling the DAC bias voltage.", 21 EP (power) "Exposed Pad. Connect the exposed pad to ground."

## AD9838BCPZ-RL7
designator U?
11 mW Power, 2.3 V to 5.5 V,Complete DDS, CP-20-10, 1500 Reel, Pb-Free; Master fclk: 16MHz; Resolution (Bits): 10bit; Tuning Word Width (bits): 28bit; I/O Interface: Serial; REFCLK Multiplier: Yes; Compliance Range (V): 800mV; FS Iout (mA nom): 3mA; DatasheetVersion: Rev. A; PackageVersion: 061609-B; PackageReference: CP-20-10; PackageDescription: 20-Lead Lead Frame Chip Scale Package [LFCSP_WQ]; Code_JEDEC: MO-220-WGGD; ComponentLink1Description: Manufacturer URL; ComponentLink1URL: www.analog.com; ComponentLink2Description: Datasheet; ComponentLink2URL: http://www.analog.com/static/imported-files/data_sheets/AD9838.pdf; ComponentLink3Description: Package Specification; ComponentLink3URL: http://www.analog.com/static/imported-files/packages/PKG_PDF/LFCSP(CP)/CP_20_10.pdf
footprint ADI-CP-20-10_N (QFN, 20-Leads, Body 4x4mm, Pitch 0.5mm, Thermal Pad 2.6x2.6mm, IPC Medium Density)
footprint ADI-CP-20-10_L (QFN, 20-Leads, Body 4x4mm, Pitch 0.5mm, Thermal Pad 2.6x2.6mm, IPC High Density)
footprint ADI-CP-20-10_M (QFN, 20-Leads, Body 4x4mm, Pitch 0.5mm, Thermal Pad 2.6x2.6mm, IPC Low Density)
pins: 1 AVDD (power) "Positive Power Supply for the Analog Section. AVDD can have a value from 2.3 V to 5.5 V. A 0.1 uF decoupling capacitor should be connected between AVDD and AGND.", 2 DVDD (power) "Positive Power Supply for the Digital Section. DVDD can have a value from 2.3 V to 5.5 V. A 0.1 uF decoupling capacitor should be connected between DVDD and DGND.", 3 CAP/2.5V (power) "The digital circuitry operates from a 2.5 V power supply. This 2.5 V is generated from DVDD using an on-board regulator when DVDD exceeds 2.7 V. [see datasheet]", 4 DGND (power) "Digital Ground.", 5 MCLK (in) "Digital Clock Input. DDS output frequencies are expressed as a binary fraction of the frequency of MCLK. The output frequency accuracy and phase noise are determined by this clock.", 6 FSELECT (in) "Frequency Select Input. FSELECT controls which frequency register, FREQ0 or FREQ1, is used in the phase accumulator. The frequency register to be used can be selected using the FSELECT pin or the FSEL bit. [see datasheet]", 7 PSELECT (in) "Phase Select Input. PSELECT controls which phase register, PHASE0 or PHASE1, is added to the phase accumulator output. The phase register to be used can be selected using the PSELECT pin or the PSEL bit. [see datasheet]", 8 RESET (in) "Active High Digital Input. This pin resets the appropriate internal registers to 0 (this corresponds to an analog output of midscale). RESET does not affect any of the addressable registers.", 9 SLEEP (in) "Active High Digital Input. When this pin is high, the DAC is powered down. This pin has the same function as the SLEEP12 control bit.", 10 SDATA (in) "Serial Data Input. The 16-bit serial data-word is applied to this input.", 11 SCLK (in) "Serial Clock Input. Data is clocked into the AD9838 on each falling edge of SCLK.", 12 FSYNC (in) "Active Low Control Input.", 13 SIGN BIT OUT (out) "Logic Output. The comparator output is available on this pin or, alternatively, the MSB from the NCO can be output on this pin. Setting the OPBITEN bit in the control register to 1 enables this output pin. [see datasheet]", 14 VIN (in) "Input to Comparator. The comparator can be used to generate a square ave from the sinusoidal DAC output. The DAC output should be filtered ropriately before it is applied to the comparator to reduce jitter. [see datasheet]", 15 AGND (power) "Analog Ground.", 16 IOUT (out) "Current Output. This is a high impedance current source. A load resistor of nominally 200  ohm should be connected between IOUT and AGND. [see datasheet]", 17 IOUTB (out) "Current Output. This is a high impedance current source. A load resistor of nominally 200  ohm should be connected between IOUT and AGND. [see datasheet]", 18 FSADJUST (in) "Full-Scale Adjust Control. A resistor (RSET) is connected between this pin and AGND to determine the magnitude of the full-scale DAC current.", 19 REFOUT (out) "Voltage Reference Output. The AD9838 has an internal 1.20 V reference that is available at this pin.", 20 COMP "DAC Bias Pin. This pin is used for decoupling the DAC bias voltage.", 21 EP (power) "Exposed Pad. Connect the exposed pad to ground."

## AD9850BRS
designator U?
CMOS, 125 MHz Complete DDS Synthesizer, 10-Bit, Parallel, Serial, RS-28, 47 Tube; Master fclk: 125MHz; Resolution (Bits): 10bit; Tuning Word Width (bits): 32bit; REFCLK Multiplier: No; Compliance Range (V): 1.5V; FS Iout (mA nom): 20mA; I Supply total (max): 96mA; DatasheetVersion: Rev. H; PackageVersion: revA, 1997; PackageReference: RS-28; PackageDescription: 28-Lead Shrink Small Outline Package [SSOP]; I/O Interface: Parallel, Serial; Code_JEDEC: MO-150-AH; ComponentLink1Description: Manufacturer URL; ComponentLink1URL: www.analog.com; ComponentLink2Description: Datasheet; ComponentLink2URL: http://www.analog.com/static/imported-files/data_sheets/AD9850.pdf; ComponentLink3Description: Package Specification; ComponentLink3URL: http://www.analog.com/static/imported-files/packages/32122249223724RS_28.pdf
footprint ADI-RS-28_N (SOP, 28-Leads, Body 10.2x5.3mm, Pitch 0.65mm, IPC Medium Density)
footprint ADI-RS-28_L (SOP, 28-Leads, Body 10.2x5.3mm, Pitch 0.65mm, IPC High Density)
footprint ADI-RS-28_M (SOP, 28-Leads, Body 10.2x5.3mm, Pitch 0.65mm, IPC Low Density)
pins: 1 D3 (in) "8-Bit Data Input. This is the 8-bit data port for iteratively loading the 32-bit frequency and the 8-bit phase/ control word. D7 = MSB; D0 = LSB. [see datasheet]", 2 D2 (in) "8-Bit Data Input. This is the 8-bit data port for iteratively loading the 32-bit frequency and the 8-bit phase/ control word. D7 = MSB; D0 = LSB. [see datasheet]", 3 D1 (in) "8-Bit Data Input. This is the 8-bit data port for iteratively loading the 32-bit frequency and the 8-bit phase/ control word. D7 = MSB; D0 = LSB. [see datasheet]", 4 D0 (in) "8-Bit Data Input. This is the 8-bit data port for iteratively loading the 32-bit frequency and the 8-bit phase/ control word. D7 = MSB; D0 = LSB. [see datasheet]", 5 DGND (power) "Digital Ground. These are the ground return leads for the digital circuitry", 6 DVDD (power) "Supply Voltage Leads for Digital Circuitry", 7 W_CLK (in) "Word Load Clock. This clock is used to load the parallel or serial frequency/phase/control words", 8 FQ_UD (in) "Frequency Update. On the rising edge of this clock, the DDS updates to the frequency (or phase) loaded in the data input register; it then resets the pointer to Word 0", 9 CLKIN (in) "Reference Clock Input. This may be a continuous CMOS-level pulse train or sine input biased at1/2 V supply. The rising edge of this clock initiates operatio", 10 AGND (power) "Analog Ground. These leads are the ground return for the analog circuitry (DAC and comparator)", 11 AVDD (power) "Supply Voltage for the Analog Circuitry (DAC and Comparator).", 12 RSET (in) "DAC’s External RSET Connection. This resistor value sets the DAC full-scale output current. For normal applications (FS IOUT = 10 mA), the value for RSET is 3.9 k? connected to ground. [see datasheet]", 13 QOUTB (out) "Output Complement. This is the comparator’s complement output.", 14 QOUT (out) "Output True. This is the comparator’s true output.", 15 VINN (in) "Inverting Voltage Input. This is the comparator’s negative input.", 16 VINP (in) "Noninverting Voltage Input. This is the comparator’s positive input.", 17 DACBL (NC) "DAC Baseline. This is the DAC baseline voltage reference; this lead is internally bypassed and should normally be considered a no connect for optimum performance", 18 AVDD (power) "Supply Voltage for the Analog Circuitry (DAC and Comparator).", 19 AGND (power) "Analog Ground. These leads are the ground return for the analog circuitry (DAC and comparator)", 20 IOUTB (out) "Complementary Analog Output of the DAC.", 21 IOUT (out) "Analog Current Output of the DAC.", 22 RESET (in) "Reset. This is the master reset function; when set high, it clears all registers (except the input register), and the DAC output goes to cosine 0 after additional clock cycles-see Figure 7", 23 DVDD (power) "Supply Voltage Leads for Digital Circuitry", 24 DGND (power) "Digital Ground. These are the ground return leads for the digital circuitry", 25 D7 (in) "8-Bit Data Input. This is the 8-bit data port for iteratively loading the 32-bit frequency and the 8-bit phase/ control word. D7 = MSB; D0 = LSB. [see datasheet]", 26 D6 (in) "8-Bit Data Input. This is the 8-bit data port for iteratively loading the 32-bit frequency and the 8-bit phase/ control word. D7 = MSB; D0 = LSB. [see datasheet]", 27 D5 (in) "8-Bit Data Input. This is the 8-bit data port for iteratively loading the 32-bit frequency and the 8-bit phase/ control word. D7 = MSB; D0 = LSB. [see datasheet]", 28 D4 (in) "8-Bit Data Input. This is the 8-bit data port for iteratively loading the 32-bit frequency and the 8-bit phase/ control word. D7 = MSB; D0 = LSB. [see datasheet]"